# EAGLE library part 746-10 (library resistor-array)
CTS 746 Series 8 Resistors, 10 Terminations
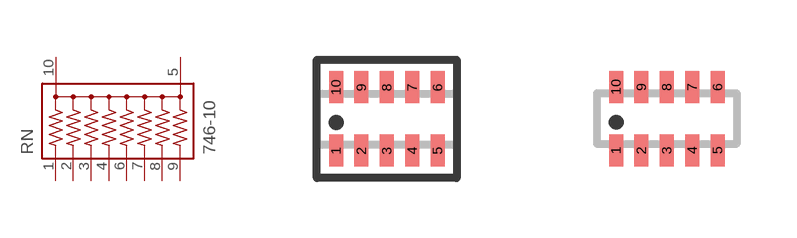
[diagram p2: symbol with the pads of 746-10; footprints 746-10, 746-10NS]

Designator prefix RN

## 746-10  [746-10]
1  1  pas
2  2  pas
3  3  pas
4  4  pas
5  5  pas
6  6  pas
7  7  pas
8  8  pas
9  9  pas
10  10  pas

## 746-10NS  [746-10NS]
Pads as for 746-10

## Footprint 746-10 (pad centres in mm)
CTS 746 Series 10 Terminations, 8 Resistors
smd 0.35 x 0.8: 1 -1.27,-0.794; 2 -0.635,-0.794; 3 0,-0.794; 4 0.635,-0.794; 5 1.27,-0.794; 6 1.27,0.794; 7 0.635,0.794; 8 0,0.794; 9 -0.635,0.794; 10 -1.27,0.794

## Footprint 746-10NS (pad centres in mm)
CTS 746 Series 10 Terminations, 8 Resistors
smd 0.35 x 0.8: 1 -1.27,-0.794; 2 -0.635,-0.794; 3 0,-0.794; 4 0.635,-0.794; 5 1.27,-0.794; 6 1.27,0.794; 7 0.635,0.794; 8 0,0.794; 9 -0.635,0.794; 10 -1.27,0.794